# Altium schematic symbol library Memory.SchLib: 1 symbol
Pins are listed as number, name and electrical type; pins without a type are passive.

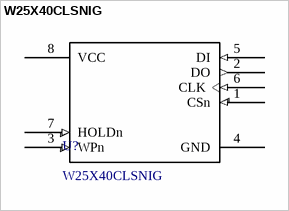
[diagram p0: symbol W25X40CLSNIG]

## W25X40CLSNIG
designator U?
FLASH Memory IC 4Mbit SPI 104 MHz 8-SOIC; Manufacturer 1: Winbond Electronics; Memory Type: Non-Volatile; Memory Organization: 512K x 8; Clock Frequency: 104 MHz; Write Cycle Time - Word, Page: 800µs; Voltage - Supply: 2.3V ~ 3.6V; Supplier 1: Digi-Key; Supplier Part Number 1: W25X40CLSNIG-ND; Manufacturer Part Number 1: W25X40CLSNIG; Memory Format: FLASH; Technology: FLASH; Memory Size: 4Mbit; Memory Interface: SPI; Operating Temperature: -40°C ~ 85°C (TA)
footprint SOIC127P600X175-8N (SOIC, 8-Leads, Body 4.90x3.90mm, Pitch 1.27mm, IPC Medium Density)
pins: 1 CSn (in), 2 DO (out), 3 WPn (in), 4 GND, 5 DI (in), 6 CLK (in), 7 HOLDn (in), 8 VCC